# EAGLE library part MC33171N (library ST Microelctronics_By_element14_Batch_1)
SINGLE BIPOLAR OPERATIONAL AMPLIFIERS
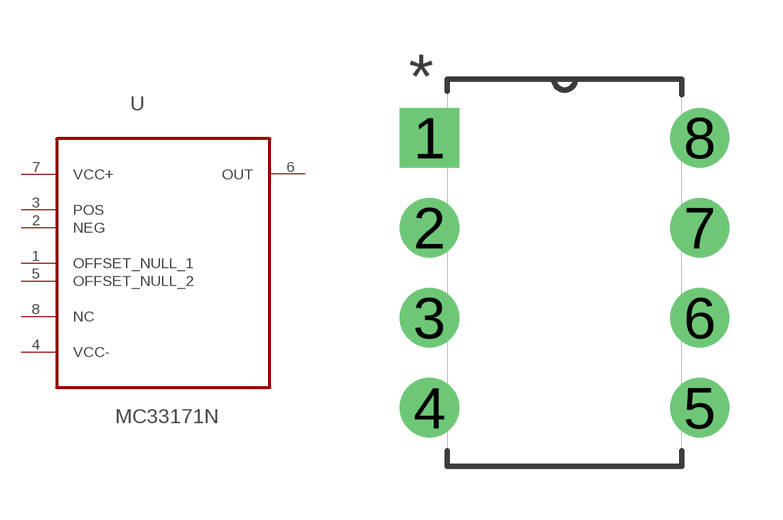
[diagram p276: symbol with the pads of DIP254P762X508-8; footprint DIP254P762X508-8]

Designator prefix U

## MC33171N (MPN: MC33171N; OC_FARNELL: 1094318; OC_NEWARK: 26M1404; PACKAGE: 8-DIP; SUPPLIER: STMICROELECTRONICS)  [DIP254P762X508-8]
1  OFFSET_NULL_1  pas
2  NEG  in
3  POS  in
4  VCC-  pwr
5  OFFSET_NULL_2  pas
6  OUT  out
7  VCC+  pwr
8  NC  nc

## Footprint DIP254P762X508-8 (pad centres in mm)
drill 1.118 square: 1 -7.62,7.62
drill 1.118: 2 -7.62,5.08; 3 -7.62,2.54; 4 -7.62,0; 5 0,0; 6 0,2.54; 7 0,5.08; 8 0,7.62